# Altium footprint library LED_SMD0805.PcbLib: 1 footprints
Each footprint in its own frame and in the unit in brackets; x right, y up, seen from the top. Pads: shape width x height; smd on the part's side, far side on the other; paste and mask are expansions set on the pad; w line width, h text height; cw(c..) or ccw(c..) is an arc to the next point about the centre after c.
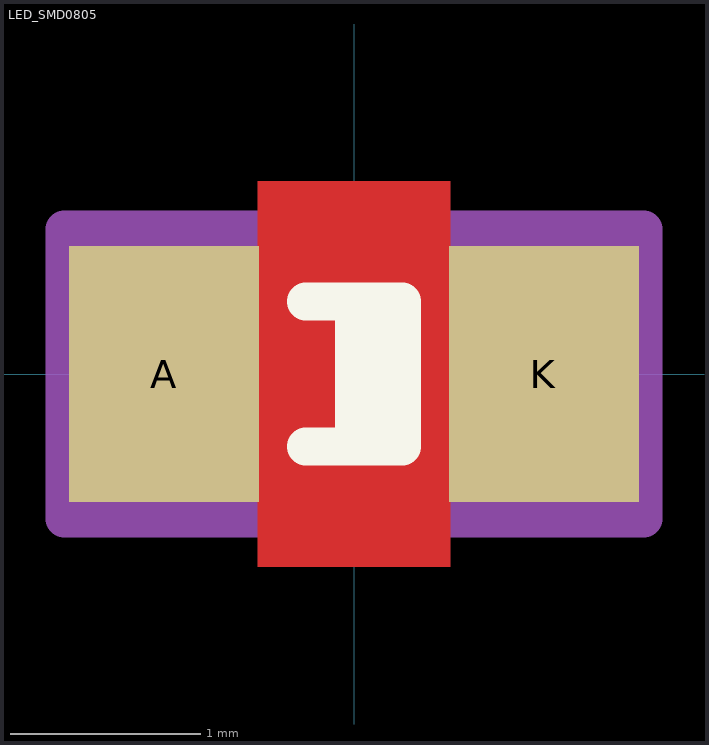
[diagram p0: the footprint, top view; thin cyan lines are the x and y axes]

## LED_SMD0805 [mm] "Chip Resistor, 2-Leads, Body 2,0x1,3mm, IPC Medium Density"
height 1.6
pads (2):
  rect 1x1.35 smd: A(-1,0) K(1,0)
Top Layer:
  pour cut-out: -0.508,1.016 0.508,1.016 0.508,-1.016 -0.508,-1.016
Top Overlay:
  lines w0.2: -0.254,-0.381 0.254,-0.381 0.254,0.381 -0.254,0.381 ; 0,-0.381 0,0.381 ; 0.127,-0.381 0.127,0.381
Mechanical 13:
  lines w0.2: 0.381,-0.381 0.381,0.381 ; -1.524,-0.762 -1.524,0.762 1.524,0.762 1.524,-0.762 -1.524,-0.762 ; -0.381,-0.381 0.381,0 -0.381,0.381 -0.381,-0.381
  text ".Designator" at -1.016,-0.381 h1.5
3D body: height 0.85, standoff 0.01, extent -1.047,-0.453 1.016,0.453